# EAGLE library part LT3652 (library IC)
Digi-Key Part Number LT3652EMSE#PBF-ND Manufacturer Linear Technology Manufacturer Part Number LT3652EMSE#PBF Description IC BATTERY CHARGER SOLAR 12MSOP Function Charge Management, Solar Battery Chemistry Lead Acid, LiFePO4, Li-Ion, Li-Pol, NiCd, NiMH Voltage - Supply 4.95 V ~ 32 V Operating Temperature -40°C ~ 125°C
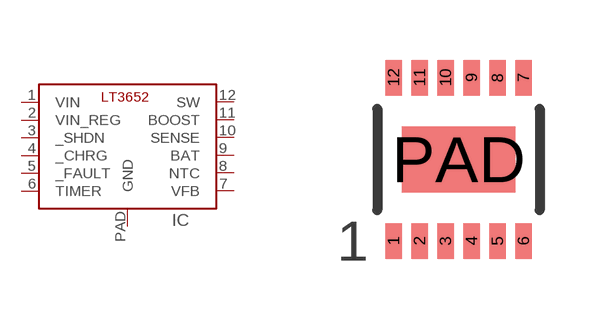
[diagram p190: symbol with the pads of MSOP-12; footprint MSOP-12]

Designator prefix IC

## LT3652-MSOP-12  [MSOP-12]
1  VIN
2  VIN_REG
3  _SHDN
4  _CHRG
5  _FAULT
6  TIMER
7  VFB
8  NTC
9  BAT
10  SENSE
11  BOOST
12  SW
PAD  GND

## Footprint MSOP-12 (pad centres in mm)
12 lead Plastic MSOP with exposed pad
smd 0.42 x 0.889: 1 -1.625,-2.045; 2 -0.975,-2.045; 3 -0.325,-2.045; 4 0.325,-2.045; 5 0.975,-2.045; 6 1.625,-2.045; 7 1.625,2.045; 8 0.975,2.045; 9 0.325,2.045; 10 -0.325,2.045; 11 -0.975,2.045; 12 -1.625,2.045
smd 2.845 x 1.651: PAD 0,0